# Altium footprint library AvionicsPcbLib1.PcbLib: 31 footprints (part 1 of 2)
Each footprint in its own frame and in the unit in brackets; x right, y up, seen from the top. Pads: shape width x height; smd on the part's side, far side on the other; paste and mask are expansions set on the pad; w line width, h text height; cw(c..) or ccw(c..) is an arc to the next point about the centre after c.
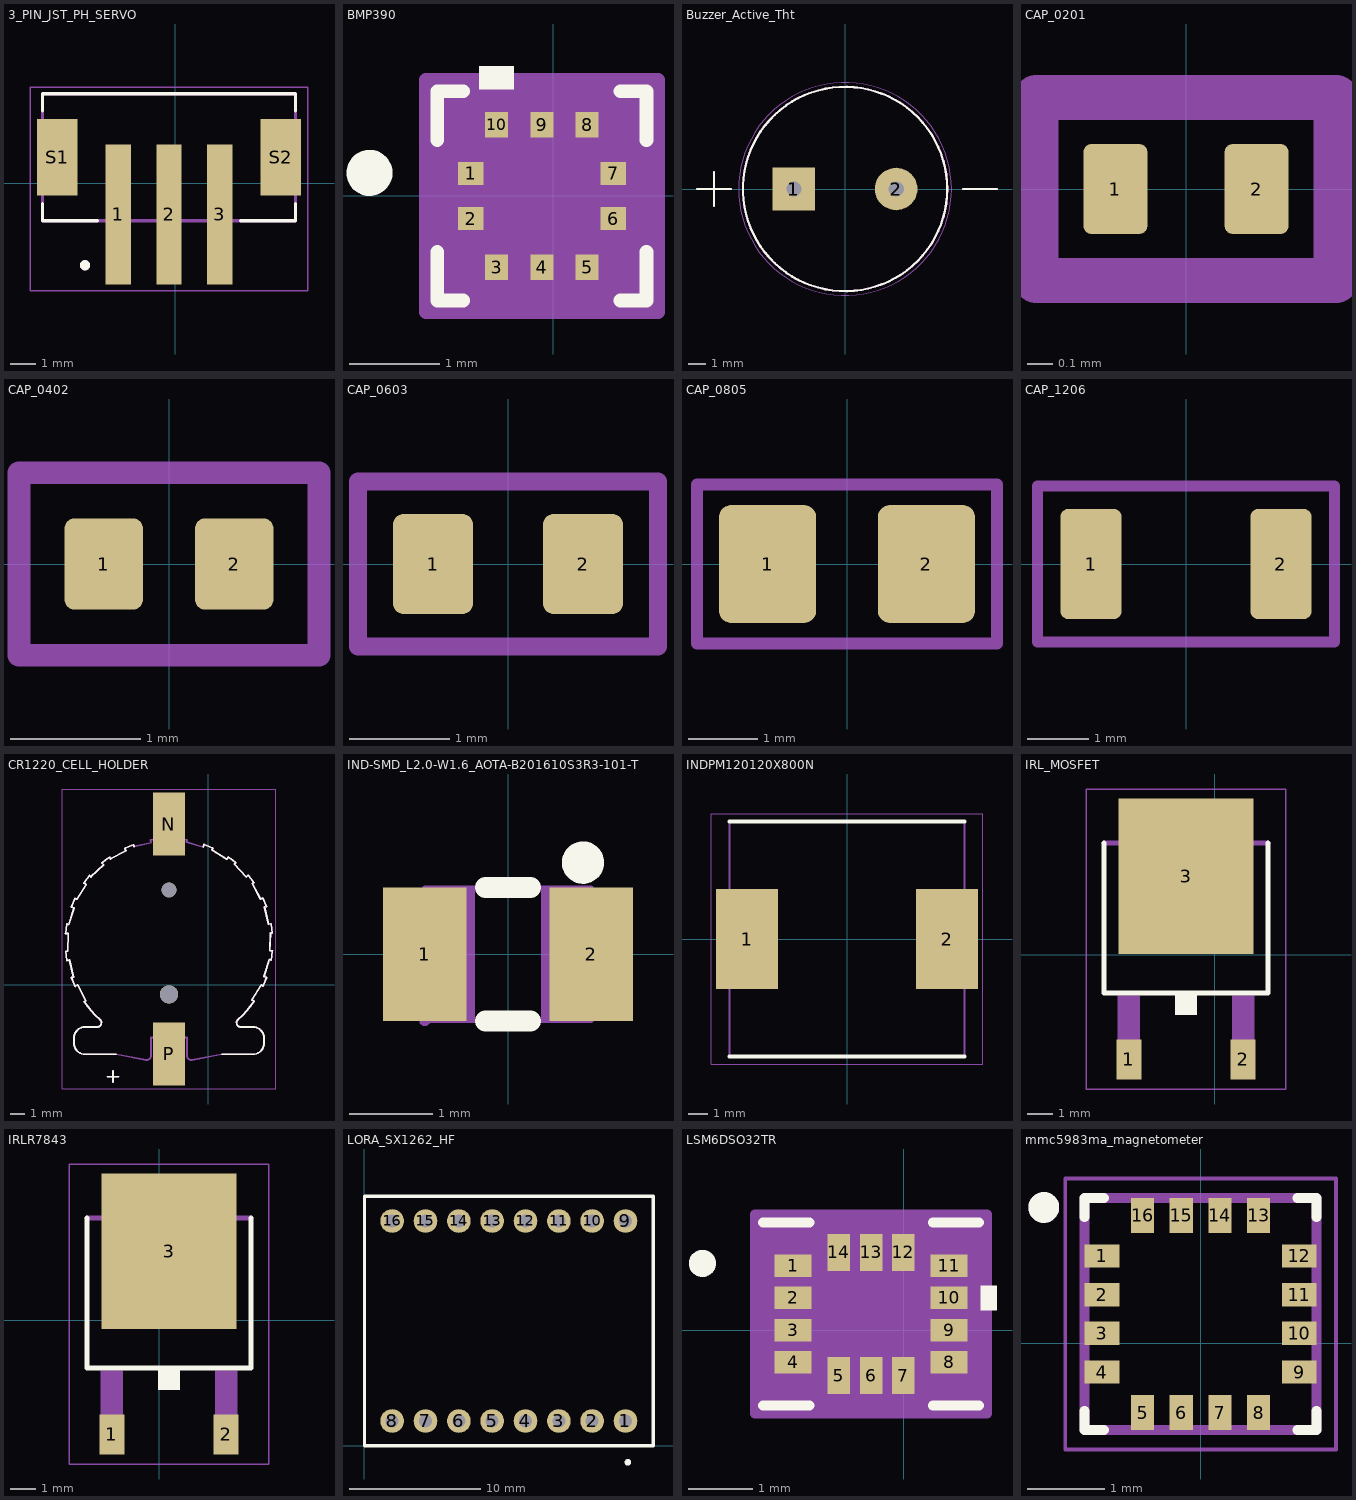
[diagram p0: the footprints below, top view; thin cyan lines are the x and y axes]

## 3_PIN_JST_PH_SERVO [mm]
pads (5):
  rect 1x5.5 smd: 1(-2.254,-1.234) 2(-0.254,-1.234) 3(1.746,-1.234)
  rect 1.6x3 smd: S1(-4.654,1.016) S2(4.146,1.016)
Top Overlay:
  circle w0.2: c-3.554,-3.234 r0.1
  lines w0.127: -5.229,-0.804 -5.229,-1.484 -3.074,-1.484 ; -5.229,2.836 -5.229,3.516 4.721,3.516 4.721,2.836 ; 2.566,-1.484 4.721,-1.484 4.721,-0.804
Mechanical 13:
  circle w0.2: c-3.554,-3.234 r0.1
  lines w0.127: -5.229,-1.484 -5.229,3.516 4.721,3.516 4.721,-1.484 -5.229,-1.484
Mechanical 15:
  lines w0.05: -5.704,-4.234 -5.704,3.766 5.196,3.766 5.196,-4.234 -5.704,-4.234
3D body "step_temp.STEP": height 6.6, standoff -0.15, extent -5.229,-1.484 4.721,5.516

## BMP390 [mil]
pads (10):
  rect 11x10 smd paste+0 mask+0: 1(-36,9.84) 2(-36,-9.84) 6(26,-9.84) 7(26,9.84)
  rect 10x11 smd paste+0 mask+0: 3(-24.68,-31) 4(-5,-31) 5(14.69,-31) 8(14.69,31) 9(-5,31) 10(-24.68,31)
Top Overlay:
  circle w10: c-80,10 r5
  region: -17.18,46.5 -32.19,46.5 -32.19,56.5 -17.18,56.5
  lines w6: -50.5,-24.36 -50.5,-45.5 -39.2,-45.5 ; -50.5,24.36 -50.5,45.5 -39.2,45.5 ; 29.2,-45.5 40.5,-45.5 40.5,-24.36 ; 29.2,45.5 40.5,45.5 40.5,24.36
  text ".Designator" at -55,70 h10
Mechanical 13:
  lines w1: -45.5,-9.5 4.5,40.5 ; -45.5,-40.5 35.5,-40.5 35.5,40.5 -45.5,40.5 -45.5,-40.5 ; -45.5,-14.84 -45.5,-4.84 -41.5,-4.84 -41.5,-14.84 -45.5,-14.84 ; -45.5,4.84 -45.5,14.84 -41.5,14.84 -41.5,4.84 -45.5,4.84 ; -29.68,-40.5 -19.68,-40.5 -19.68,-36.5 -29.68,-36.5 -29.68,-40.5 ; -29.68,36.5 -19.68,36.5 -19.68,40.5 -29.68,40.5 -29.68,36.5 ; -10,-40.5 0,-40.5 0,-36.5 -10,-36.5 -10,-40.5 ; -10,36.5 0,36.5 0,40.5 -10,40.5 -10,36.5 ; 9.69,-40.5 19.68,-40.5 19.68,-36.5 9.69,-36.5 9.69,-40.5 ; 9.69,36.5 19.68,36.5 19.68,40.5 9.69,40.5 9.69,36.5 ; 31.5,-14.84 35.5,-14.84 35.5,-4.84 31.5,-4.84 31.5,-14.84 ; 31.5,4.84 35.5,4.84 35.5,14.84 31.5,14.84 31.5,4.84
  text ".Designator" at -55,70 h10
Mechanical 15:
  region: -39.69,-50.5 -55.5,-50.5 -55.5,-24.84 -55.5,24.84 -55.5,50.5 -39.69,50.5 29.68,50.5 45.5,50.5 45.5,24.84 45.5,-24.84 45.5,-50.5 29.68,-50.5
  lines w6: -55.5,-50.5 -55.5,-24.84 -55.5,24.84 -55.5,50.5 -39.69,50.5 29.68,50.5 45.5,50.5 45.5,24.84 45.5,-24.84 45.5,-50.5 29.68,-50.5 -39.69,-50.5 -55.5,-50.5
3D body "10LGA_2X2X0p75_BOS.step": height 32.09, standoff 0, extent -45.51,-40.51 35.51,40.51

## Buzzer_Active_Tht [mm]
pads (4):
  rect 2.5x2.5 / inner round 2.5 / far side rect 2.5x2.5 hole 0.9: 1(-3,0) 1(-3,0)
  round 2.5 hole 0.9: 2(3,0) 2(3,0)
Top Overlay:
  circle w0.127: c0,0 r6
  circle w0.127: c0,0 r6
  lines w0.127: -8.69,0 -6.69,0 -8.69,0 ; -7.69,-1 -7.69,1 -7.69,-1 ; 6.92,0 8.92,0 6.92,0
Mechanical 13:
  circle w0.127: c0,0 r6
  circle w0.127: c0,0 r6
  lines w0.127: -8.69,0 -6.69,0 -8.69,0 ; -7.69,-1 -7.69,1 -7.69,-1 ; 6.92,0 8.92,0 6.92,0
Mechanical 15:
  circle w0.05: c0,0 r6.25
  circle w0.05: c0,0 r6.25

## CAP_0201 [mm]
pads (2):
  rrect25% 0.25x0.35 smd mask+0.05: 1(-0.275,0) 2(0.275,0)
Mechanical 13:
  lines w0.175: -0.584,-0.356 0.584,-0.356 0.584,0.356 -0.584,0.356 -0.584,-0.356
  text "'.Designator'" at -5.665,-0.417 h1
3D body "C0201.stp": height 0.34, standoff 0.01, extent -0.315,-0.166 0.315,0.164

## CAP_0402 [mm]
pads (2):
  rrect25% 0.6x0.7 smd: 1(-0.5,0) 2(0.5,0)
Mechanical 13:
  lines w0.175: -1.15,-0.7 1.15,-0.7 1.15,0.7 -1.15,0.7 -1.15,-0.7
  text "'.Designator'" at -5.665,-0.29 h1
3D body "C0402.step": height 0.37, standoff 0.01, extent -0.5,-0.265 0.5,0.265

## CAP_0603 [mm]
pads (2):
  rrect25% 0.8x1 smd: 1(-0.75,0) 2(0.75,0)
Mechanical 13:
  lines w0.175: -1.5,-0.825 -1.5,0.825 1.5,0.825 1.5,-0.825 -1.5,-0.825
  text "'.Designator'" at -5.665,-0.417 h1
3D body "C0603.step": height 0.51, standoff 0.01, extent -0.8,-0.4 0.8,0.4

## CAP_0805 [mm]
pads (2):
  rrect25% 1.4x1.7 smd: 1(-1.143,0) 2(1.143,0)
Mechanical 13:
  lines w0.175: -2.159,-1.143 -2.159,1.143 2.159,1.143 2.159,-1.143 -2.159,-1.143
  text "'.Designator'" at -5.665,-0.417 h1
3D body "C0805.stp": height 1.01, standoff 0.01, extent -1.15,-0.762 1.15,0.788

## CAP_1206 [mm]
pads (2):
  rrect25% 1x1.8 smd: 1(-1.55,0) 2(1.55,0)
Mechanical 13:
  lines w0.175: -2.425,-1.275 -2.425,1.275 2.425,1.275 2.425,-1.275 -2.425,-1.275
  text "'.Designator'" at -5.665,-0.417 h1
3D body "C1206.step": height 0.94, standoff 0, extent -1.6,-0.8 1.6,0.8

## CR1220_CELL_HOLDER [mm]
pads (4):
  rect 2.3x4.5 smd: N(-2.794,11.473) P(-2.794,-4.927)
  round 1.3 hole 1.3 unplated: ""(-2.794,-0.677)
  round 1.05 hole 1.05 unplated: ""(-2.794,6.773)
Top Overlay:
  lines w0.127: -10.168,3.663 -9.974,3.656 -10.023,2.399 -10.166,2.405 ; -10.166,2.403 ccw(c-2.794,3.048) -10.082,1.763 ; -10.166,3.693 cw(c-2.794,3.048) -10.082,4.333 ; -10.081,4.335 -9.944,4.293 -9.572,5.494 -9.758,5.551 ; -10.076,1.733 -9.887,1.776 -9.608,0.55 -9.748,0.518 ; -9.748,0.517 ccw(c-2.794,3.048) -9.501,-0.079 ; -9.748,5.579 cw(c-2.794,3.048) -9.501,6.175 ; -9.5,6.178 -9.378,6.101 -8.708,7.165 -8.873,7.268 ; -9.488,-0.107 -9.316,-0.017 -8.73,-1.129 -8.856,-1.195 ; -8.856,-1.196 ccw(c-2.794,3.048) -7.746,-2.451 ; -8.856,7.292 cw(c-2.794,3.048) -8.463,7.805 ; -8.461,7.807 -8.364,7.702 -7.441,8.556 -7.573,8.698 ; -7.715,-2.479 cw(c-7.915,-2.702) -7.915,-3.002 -8.778,-3.002 ccw(c-8.778,-3.802) -9.578,-3.802 -9.578,-4.152 ccw(c-8.778,-4.152) -8.778,-4.952 -6.558,-4.952 ; -7.551,8.717 cw(c-2.794,3.048) -7.038,9.11 ; -7.194,-6.552 -6.394,-6.552 ; -7.036,9.111 -6.969,8.985 -5.857,9.571 -5.948,9.742 ; -6.794,-6.952 -6.794,-6.152 ; -5.921,9.755 cw(c-2.794,3.048) -5.325,10.002 ; -5.322,10.003 -5.291,9.864 ; -0.347,9.828 -0.29,10.012 ; -0.263,10.002 cw(c-2.794,3.048) 0.333,9.755 ; 0.336,9.753 0.26,9.634 1.324,8.964 1.427,9.126 ; 0.97,-4.952 3.19,-4.952 ccw(c3.19,-4.152) 3.99,-4.152 3.99,-3.802 ccw(c3.19,-3.802) 3.19,-3.002 2.327,-3.002 cw(c2.327,-2.702) 2.127,-2.479 ; 1.45,9.11 cw(c-2.794,3.048) 1.963,8.717 ; 1.965,8.715 1.861,8.619 2.715,7.697 2.856,7.827 ; 2.158,-2.451 ccw(c-2.794,3.048) 3.268,-1.196 ; 2.875,7.805 cw(c-2.794,3.048) 3.268,7.292 ; 3.269,7.291 3.144,7.225 3.731,6.113 3.9,6.202 ; 3.285,-1.171 3.123,-1.069 3.793,-0.005 3.912,-0.08 ; 3.913,-0.079 ccw(c-2.794,3.048) 4.16,0.517 ; 3.913,6.175 cw(c-2.794,3.048) 4.16,5.579 ; 4.16,5.577 4.023,5.546 4.301,4.32 4.488,4.362 ; 4.17,0.546 3.987,0.602 4.359,1.803 4.493,1.762 ; 4.494,1.763 ccw(c-2.794,3.048) 4.578,2.403 ; 4.494,4.333 cw(c-2.794,3.048) 4.578,3.693 ; 4.578,3.691 4.437,3.697 4.389,2.44 4.58,2.433
Mechanical 13:
  lines w0.127: -10.168,3.663 -9.974,3.656 -10.023,2.399 -10.166,2.405 ; -10.166,2.403 ccw(c-2.794,3.048) -10.082,1.763 ; -10.166,3.693 cw(c-2.794,3.048) -10.082,4.333 ; -10.081,4.335 -9.944,4.293 -9.572,5.494 -9.758,5.551 ; -10.076,1.733 -9.887,1.776 -9.608,0.55 -9.748,0.518 ; -9.748,0.517 ccw(c-2.794,3.048) -9.501,-0.079 ; -9.748,5.579 cw(c-2.794,3.048) -9.501,6.175 ; -9.5,6.178 -9.378,6.101 -8.708,7.165 -8.873,7.268 ; -9.488,-0.107 -9.316,-0.017 -8.73,-1.129 -8.856,-1.195 ; -8.856,-1.196 ccw(c-2.794,3.048) -7.746,-2.451 ; -8.856,7.292 cw(c-2.794,3.048) -8.463,7.805 ; -8.461,7.807 -8.364,7.702 -7.441,8.556 -7.573,8.698 ; -7.715,-2.479 cw(c-7.915,-2.702) -7.915,-3.002 -8.778,-3.002 ccw(c-8.778,-3.802) -9.578,-3.802 -9.578,-4.152 ccw(c-8.778,-4.152) -8.778,-4.952 -6.558,-4.952 -4.431,-5.352 ; -7.551,8.717 cw(c-2.794,3.048) -7.038,9.11 ; -7.194,-6.552 -6.394,-6.552 ; -7.036,9.111 -6.969,8.985 -5.857,9.571 -5.948,9.742 ; -6.794,-6.952 -6.794,-6.152 ; -5.921,9.755 cw(c-2.794,3.048) -5.325,10.002 ; -5.322,10.003 -5.291,9.864 -4.065,10.142 -4.107,10.331 ; -4.433,-5.352 ccw(c-4.376,-5.057) -4.076,-5.057 -4.076,-3.762 -1.512,-3.762 -1.512,-5.057 ccw(c-1.212,-5.057) -1.155,-5.352 ; -4.079,10.336 cw(c-2.794,3.048) -3.696,10.393 ; -3.694,10.378 -1.894,10.378 ; -1.892,10.393 cw(c-2.794,3.048) -1.509,10.336 ; -1.506,10.335 -1.548,10.199 -0.347,9.828 -0.29,10.012 ; -1.157,-5.352 0.97,-4.952 3.19,-4.952 ccw(c3.19,-4.152) 3.99,-4.152 3.99,-3.802 ccw(c3.19,-3.802) 3.19,-3.002 2.327,-3.002 cw(c2.327,-2.702) 2.127,-2.479 ; -0.263,10.002 cw(c-2.794,3.048) 0.333,9.755 ; 0.336,9.753 0.26,9.634 1.324,8.964 1.427,9.126 ; 1.45,9.11 cw(c-2.794,3.048) 1.963,8.717 ; 1.965,8.715 1.861,8.619 2.715,7.697 2.856,7.827 ; 2.158,-2.451 ccw(c-2.794,3.048) 3.268,-1.196 ; 2.875,7.805 cw(c-2.794,3.048) 3.268,7.292 ; 3.269,7.291 3.144,7.225 3.731,6.113 3.9,6.202 ; 3.285,-1.171 3.123,-1.069 3.793,-0.005 3.912,-0.08 ; 3.913,-0.079 ccw(c-2.794,3.048) 4.16,0.517 ; 3.913,6.175 cw(c-2.794,3.048) 4.16,5.579 ; 4.16,5.577 4.023,5.546 4.301,4.32 4.488,4.362 ; 4.17,0.546 3.987,0.602 4.359,1.803 4.493,1.762 ; 4.494,1.763 ccw(c-2.794,3.048) 4.578,2.403 ; 4.494,4.333 cw(c-2.794,3.048) 4.578,3.693 ; 4.578,3.691 4.437,3.697 4.389,2.44 4.58,2.433
Mechanical 15:
  lines w0.05: -10.418,-7.427 -10.418,13.973 4.83,13.973 4.83,-7.427 -10.418,-7.427
3D body "step_temp.STEP": height 4.25, standoff -0.95, extent -10.166,-6.552 4.578,12.648

## IND-SMD_L2.0-W1.6_AOTA-B201610S3R3-101-T [mm]
pads (2):
  rect 1x1.6 smd paste+0 mask+0.05: 1(-1,0) 2(1,0)
Top Overlay:
  circle w0.254: c0.9,1.1 r0.127
  lines w0.254: -0.269,-0.8 0.269,-0.8 ; -0.269,0.8 0.269,0.8
Mechanical 6:
  circle w0.254: c1,0.5 r0.127
Mechanical 15:
  region: -0.94,-0.8 -0.94,-0.825 -0.975,-0.86 -1.025,-0.86 -1.06,-0.825 -1.06,-0.8 -1.06,-0.775 -1.025,-0.74 -0.975,-0.74 -0.94,-0.775 -0.94,-0.8
  region: 0.4,0.8 1,0.8 1,-0.8 0.4,-0.8
  region: -1,0.8 -0.4,0.8 -0.4,-0.8 -1,-0.8
  lines w0.051: -1,-0.8 -1,0.8 1,0.8 1,-0.8 -1,-0.8

## INDPM120120X800N [mm]
pads (2):
  rect 3.15x5.1 smd: 1(-5.1,0) 2(5.1,0)
Top Overlay:
  lines w0.2: -6,-6 6,-6 ; -6,6 6,6
Mechanical 13:
  lines w0.1: -6,-6 6,-6 6,6 -6,6 -6,-6
Mechanical 15:
  lines w0.05: -6.925,-6.4 6.925,-6.4 6.925,6.4 -6.925,6.4 -6.925,-6.4
3D body "CDRH127_LDNP-150MC.stp": height 8, standoff 0, extent -6,-6 6,6

## IRL_MOSFET [mm]
pads (3):
  rect 1x1.6 smd: 1(-3.423,-4.165) 2(1.137,-4.165)
  rect 5.4x6.2 smd: 3(-1.143,3.135)
Top Overlay:
  region: -0.711,-2.388 -1.575,-2.388 -1.575,-1.626 -0.711,-1.626
  lines w0.203: -4.42,4.47 -4.42,-1.524 2.134,-1.524 2.134,4.47
Mechanical 13:
  region: 1.422,5.283 1.422,4.572 -3.708,4.572 -3.708,5.283 -3.251,5.74 0.965,5.74
  region: 1.575,-4.521 0.711,-4.521 0.711,-1.626 1.575,-1.626
  region: -2.997,-4.521 -3.861,-4.521 -3.861,-1.626 -2.997,-1.626
  lines w0.203: -4.42,4.47 2.134,4.47 ; -3.708,4.572 1.422,4.572 1.422,5.283 0.965,5.74 -3.251,5.74 -3.708,5.283 -3.708,4.572
Mechanical 15:
  lines w0.051: -5.116,-5.348 -5.116,6.618 2.83,6.618 2.83,-5.348 -5.116,-5.348
3D body "step_temp.STEP": height 2.39, standoff -0.13, extent -6.095,-2.635 3.809,3.905

## IRLR7843 [mm]
pads (3):
  rect 1x1.6 smd: 1(-1.899,-4.546) 2(2.661,-4.546)
  rect 5.4x6.2 smd: 3(0.381,2.754)
Top Overlay:
  region: 0.813,-2.769 -0.051,-2.769 -0.051,-2.007 0.813,-2.007
  lines w0.203: -2.896,4.089 -2.896,-1.905 3.658,-1.905 3.658,4.089
Mechanical 13:
  region: 2.946,4.902 2.946,4.191 -2.184,4.191 -2.184,4.902 -1.727,5.359 2.489,5.359
  region: 3.099,-4.902 2.235,-4.902 2.235,-2.007 3.099,-2.007
  region: -1.473,-4.902 -2.337,-4.902 -2.337,-2.007 -1.473,-2.007
  lines w0.203: -2.896,4.089 3.658,4.089 ; -2.184,4.191 2.946,4.191 2.946,4.902 2.489,5.359 -1.727,5.359 -2.184,4.902 -2.184,4.191
Mechanical 15:
  lines w0.051: -3.592,-5.729 -3.592,6.237 4.354,6.237 4.354,-5.729 -3.592,-5.729
3D body "step_temp.STEP": height 2.39, standoff -0.13, extent -4.571,-3.016 5.333,3.524

## LORA_SX1262_HF [mm]
pads (16):
  round 1.8 hole 1: 1(19.89,1.88) 2(17.35,1.88) 3(14.81,1.88) 4(12.27,1.88) 5(9.73,1.88) 6(7.19,1.88) 7(4.65,1.88) 8(2.11,1.88) 9(19.89,17.12) 10(17.35,17.12) 11(14.81,17.12) 12(12.27,17.12) 13(9.73,17.12) 14(7.19,17.12) 15(4.65,17.12) 16(2.11,17.12)
Top Overlay:
  circle w0.254: c20.066,-1.27 r0.127
  lines w0.254: 0,0 22,0 22,19 0,19 0,0
  text ".Designator" at 0.127,20.701 h1.52

## LSM6DSO32TR [mil]
pads (14):
  rect 22.7x13.84 smd paste+0 mask+4: 1(-67.65,39.53) 2(-67.65,19.84) 3(-67.65,0.16) 4(-67.65,-19.53) 8(27.65,-19.53) 9(27.65,0.16) 10(27.65,19.84) 11(27.65,39.53)
  rect 13.84x22.7 smd paste+0 mask+4: 5(-39.69,-27.65) 6(-20,-27.65) 7(-0.32,-27.65) 12(-0.32,47.65) 13(-20,47.65) 14(-39.69,47.65)
Top Overlay:
  circle w10: c-123.16,40.93 r3.29
  region: 47,27.34 57,27.34 57,12.34 47,12.34
  lines w6: -86,-46 -57.68,-46 ; -86,66 -57.68,66 ; 17.68,-46 46,-46 ; 17.68,66 46,66
  text ".Designator" at -90,95 h20
Mechanical 13:
  lines w1: -81,11 -31,61 ; -81,-41 41,-41 41,61 -81,61 -81,-41 ; -81,-24.45 -81,-14.61 -77,-14.61 -77,-24.45 -81,-24.45 ; -81,-4.76 -81,5.08 -77,5.08 -77,-4.76 -81,-4.76 ; -81,14.92 -81,24.76 -77,24.76 -77,14.92 -81,14.92 ; -81,34.61 -81,44.45 -77,44.45 -77,34.61 -81,34.61 ; -44.61,-41 -34.76,-41 -34.76,-37 -44.61,-37 -44.61,-41 ; -44.61,57 -34.76,57 -34.76,61 -44.61,61 -44.61,57 ; -24.92,-41 -15.08,-41 -15.08,-37 -24.92,-37 -24.92,-41 ; -24.92,57 -15.08,57 -15.08,61 -24.92,61 -24.92,57 ; -5.24,-41 4.61,-41 4.61,-37 -5.24,-37 -5.24,-41 ; -5.24,57 4.61,57 4.61,61 -5.24,61 -5.24,57 ; 37,-24.45 41,-24.45 41,-14.61 37,-14.61 37,-24.45 ; 37,-4.76 41,-4.76 41,5.08 37,5.08 37,-4.76 ; 37,14.92 41,14.92 41,24.76 37,24.76 37,14.92 ; 37,34.61 41,34.61 41,44.45 37,44.45 37,34.61
  text ".Designator" at -90,95 h20
  text "*" at -70.8,24.37 h50
Mechanical 15:
  region: -54.61,-51 -91,-51 -91,-34.45 -91,54.45 -91,71 -54.61,71 14.61,71 51,71 51,54.45 51,-34.45 51,-51 14.61,-51
  lines w6: -91,-51 -91,-34.45 -91,54.45 -91,71 -54.61,71 14.61,71 51,71 51,54.45 51,-34.45 51,-51 14.61,-51 -54.61,-51 -91,-51
3D body "LGA-14L_2P5X3X0P83_STM.step": height 34.09, standoff 0, extent -80.98,-40.98 40.98,60.98

## mmc5983ma_magnetometer [mm]
pads (16):
  rect 0.45x0.3 smd: 1(-1.275,1.131) 2(-1.275,0.631) 3(-1.275,0.131) 4(-1.275,-0.369) 9(1.275,-0.369) 10(1.275,0.131) 11(1.275,0.631) 12(1.275,1.131)
  rect 0.3x0.45 smd: 5(-0.75,-0.894) 6(-0.25,-0.894) 7(0.25,-0.894) 8(0.75,-0.894) 13(0.75,1.656) 14(0.25,1.656) 15(-0.25,1.656) 16(-0.75,1.656)
Top Overlay:
  circle w0.2: c-2.028,1.759 r0.1
  lines w0.127: -1.5,-0.869 -1.5,-1.119 -1.25,-1.119 ; -1.5,1.631 -1.5,1.881 -1.25,1.881 ; 1.25,-1.119 1.5,-1.119 1.5,-0.869 ; 1.25,1.881 1.5,1.881 1.5,1.631
Mechanical 13:
  circle w0.2: c-2.028,1.759 r0.1
  lines w0.127: -1.5,-1.119 1.5,-1.119 1.5,1.881 -1.5,1.881 -1.5,-1.119
Mechanical 15:
  lines w0.05: -1.75,-1.369 1.75,-1.369 1.75,2.131 -1.75,2.131 -1.75,-1.369
3D body "step_temp.STEP": height 1, standoff 0, extent -1.5,-1.119 1.5,1.881